# Altium integrated library Texas Instruments Power Management PWM Controller.IntLib: 1227 symbols (part 3 of 49)
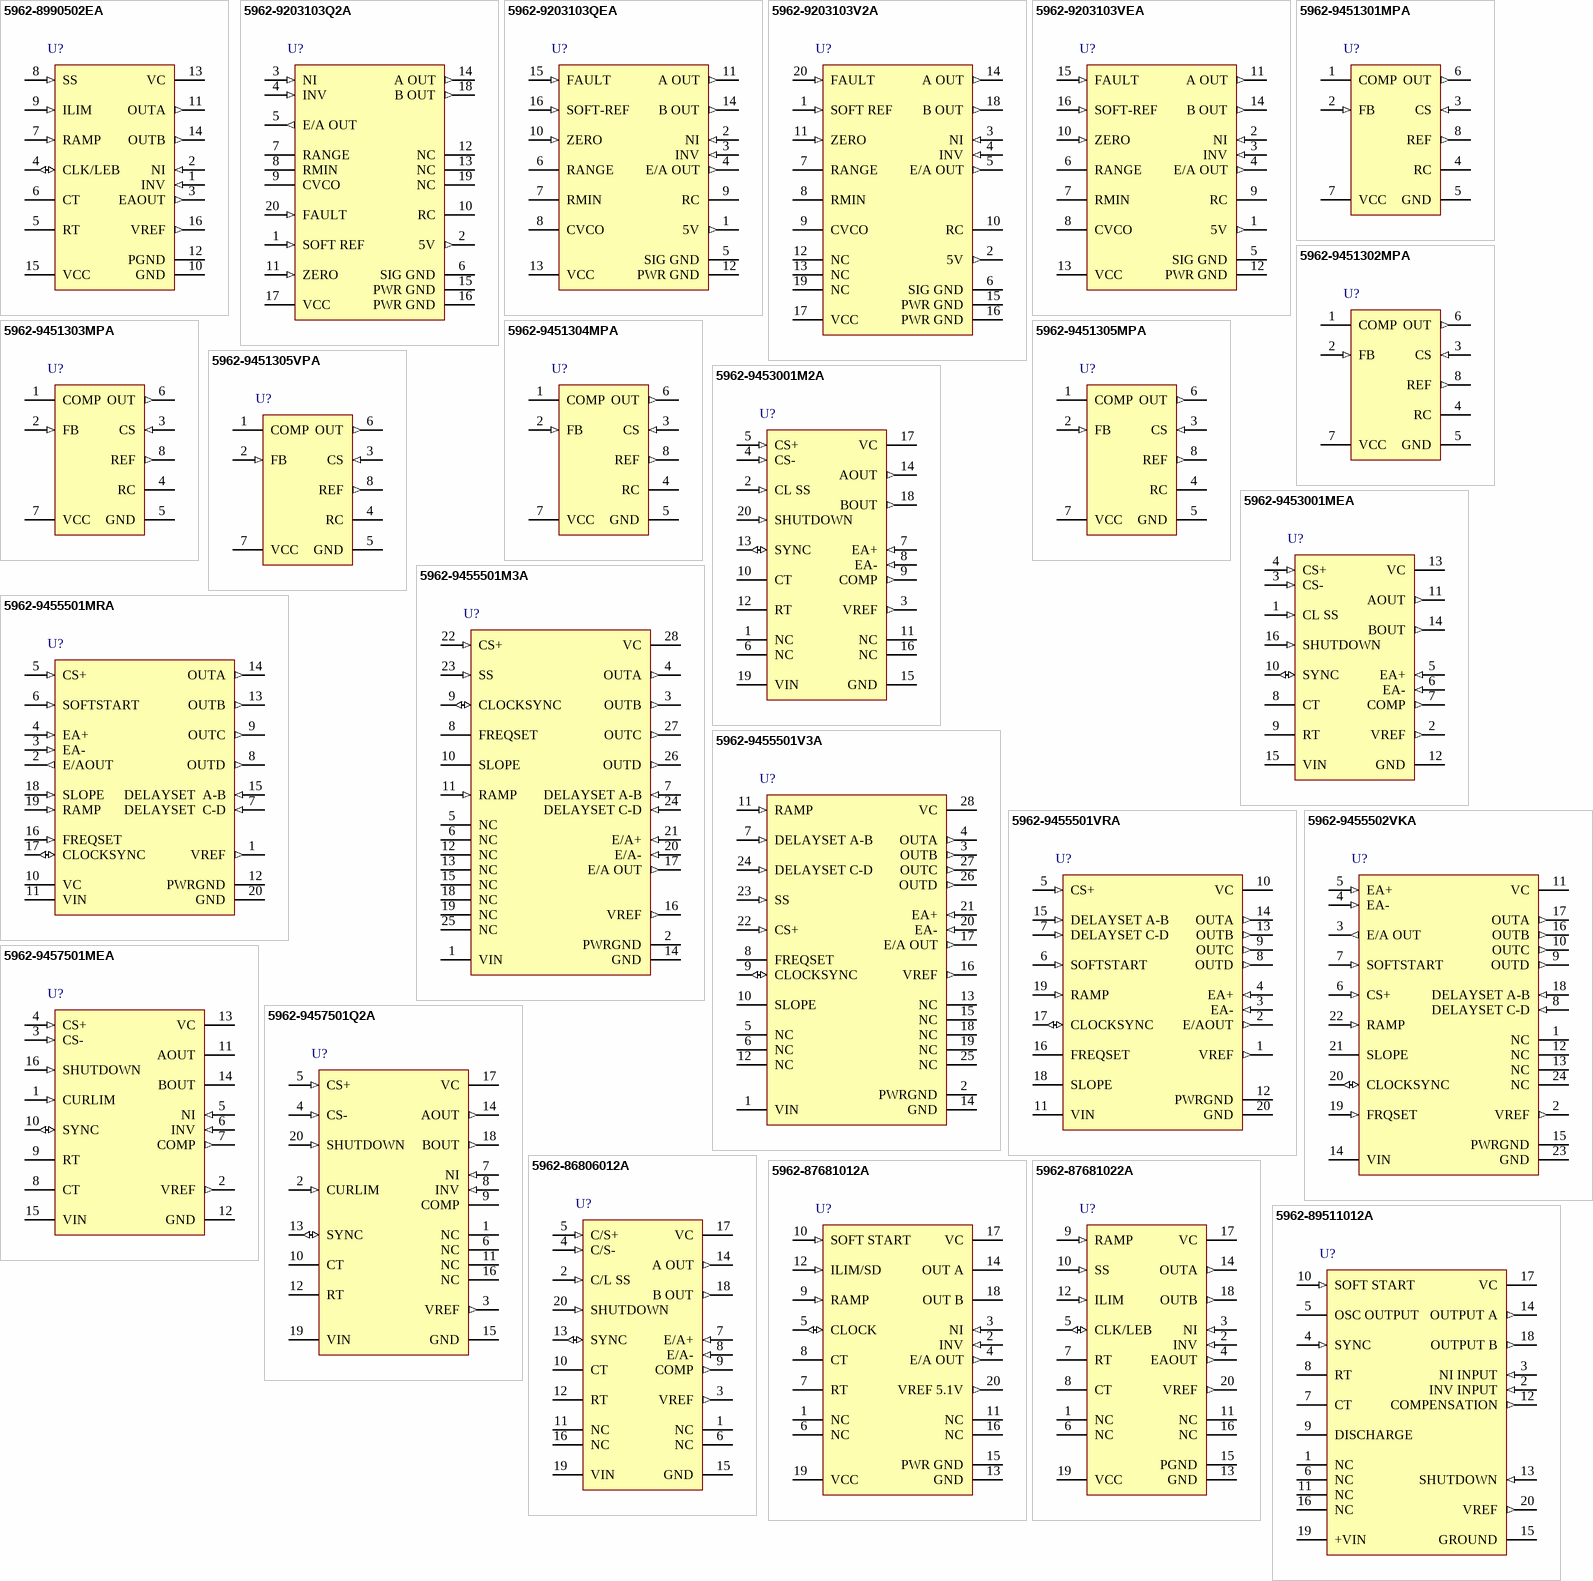
[diagram p45: symbols 5962-8990502EA to 5962-89511012A]

## 5962-9455501V3A
designator U?
Rad-Tolerant Class V, Phase Shift Resonant Controller, -55 to +125 degC, 28-pin LCCC (FK); PartNumber: 5962-9455501V3A; Manufacturer: Texas Instruments; Eco-Plan: TBD; Rating: Space; SubFamily: PWM Controller; DatasheetVersion: SLUSAQ9; PackageVersion: revD, Jan-2011; PackageReference: FK28; PackageDescription: 28-Pin Ceramic Leadless Chip Carrier 1.27 mm Pitch; Mounting Technology: Surface Mount; Code_JEDEC: MS-004; ComponentLink1Description: Datasheet; ComponentLink1URL: http://www.ti.com/general/docs/lit/getliterature.tsp?genericPartNumber=UC1875-SP&fileType=pdf
footprint FK28_N (Leadless Chip Carrier, 28-Leads, Body 11.4x11.4mm, Pitch 1.27mm, IPC Medium Density)
footprint FK28_L (Leadless Chip Carrier, 28-Leads, Body 11.4x11.4mm, Pitch 1.27mm, IPC High Density)
footprint FK28_M (Leadless Chip Carrier, 28-Leads, Body 11.4x11.4mm, Pitch 1.27mm, IPC Low Density)
pins: 1 VIN (power) "This pin supplies power to the logic and analog circuitry on the integrated circuit that is not directly associated with driving the output stages. Connect VIN to a stable source above 12 V for normal operation. To ensure (See Datasheet)", 2 PWRGND (power) "VC should be bypassed with a ceramic capacitor from the VC pin to the section of the ground plane that is connected to PWRGND. Any required bulk reservoir capacitor should parallel this one. Power ground and signal ground (See Datasheet)", 3 OUTB (out) "The output is 2 A totem-pole drivers optimized for both MOSFET gates and level-shifting transformers. The outputs operate as pairs with a nominal 50% duty-cycle. The A-B pair is intended to drive one half-bridge in the (See Datasheet)", 4 OUTA (out) "The output is 2 A totem-pole drivers optimized for both MOSFET gates and level-shifting transformers. The outputs operate as pairs with a nominal 50% duty-cycle. The A-B pair is intended to drive one half-bridge in the (See Datasheet)", 5 NC "No connection.", 6 NC "No connection.", 7 DELAYSET A-B (in) "The user programmed current flowing from this pin to GND set the turn-on delay for the corresponding output pair. This delay is introduced between turn-off of one switch and turn-on of another in the same leg of the bridge (See Datasheet)", 8 FREQSET "A resistor and a capacitor from FREQSET to GND will set the oscillator frequency.", 9 CLOCKSYNC (io) "Used as an output, this pin provides a clock signal. As an input, this pin provides a synchronization point. In its simplest usage, multiple devices, each with their own local oscillator frequency, may be connected together (See Datasheet)", 10 SLOPE "A resistor from this pin to VCC will set the current used to generate the ramp. Connecting this resistor to the DC input line voltage will provide voltage feed-forward.", 11 RAMP (in) "This pin is the input to the PWM comparator. Connect a capacitor from here to GND. Current mode control may be achieved with a minimum amount of external circuitry, in which case this pin provides slope compensation. Because (See Datasheet)", 12 NC "No connection.", 13 NC "No connection.", 14 GND (power) "All voltages are measured with respect to GND. The timing capacitor, on the FREQSET pin, any bypass capacitor on the VREF pin, bypass capacitors on VIN and the ramp capacitor, on the RAMP pin, should be connected directly to (See Datasheet)", 15 NC "No connection.", 16 VREF (out) "This pin is an accurate 5 V voltage reference. This output is capable of delivering about 60 mA to peripheral circuitry and is internally short circuit current limited. VREF is disabled while VIN is low enough to force the (See Datasheet)", 17 E/A OUT (out) "This is is the gain stage for overall feedback control. Error amplifier output voltage levels below 1 volt will force 0degrees phase shift. Since the error amplifier has a relatively low current drive capability, the output (See Datasheet)", 18 NC "No connection.", 19 NC "No connection.", 20 EA- (in) "This is normally connected to the voltage divider resistors which sense the power supply output voltage level.", 21 EA+ (in) "This is normally connected to a reference voltage used for comparison with the sensed power supply output voltage level at the EA+ pin.", 22 CS+ (in) "The non-inverting input to the current-fault comparator whose reference is set internally to a fixed 2.5 V (separate from VREF). When the voltage at this pin exceeds 2.5 V the current-fault latch is set, the outputs are (See Datasheet)", 23 SS (in) "SOFTSTART will remain at GND as long as VIN is below the UVLO threshold. SOFTSTART will be pulled up to about 4.8 V by an internal 9 µA current source when VIN becomes valid (assuming a non-fault condition). In the event of (See Datasheet)", 24 DELAYSET C-D (in) "The user programmed current flowing from this pin to GND set the turn-on delay for the corresponding output pair. This delay is introduced between turn-off of one switch and turn-on of another in the same leg of the bridge (See Datasheet)", 25 NC "No connection.", 26 OUTD (out) "The output is 2 A totem-pole drivers optimized for both MOSFET gates and level-shifting transformers. The outputs operate as pairs with a nominal 50% duty-cycle. The A-B pair is intended to drive one half-bridge in the (See Datasheet)", 27 OUTC (out) "The output is 2 A totem-pole drivers optimized for both MOSFET gates and level-shifting transformers. The outputs operate as pairs with a nominal 50% duty-cycle. The A-B pair is intended to drive one half-bridge in the (See Datasheet)", 28 VC (power) "This pin supplies power to the output drivers and their associated bias circuitry. Connect VC to a stable source above 3 V for normal operation, above 12 V for best performance. This supply should be bypassed directly to the (See Datasheet)"

## 5962-9455501VRA
designator U?
Rad-Tolerant Class V, Phase Shift Resonant Controller, -55 to +125 degC, 20-pin CDIP (J); PartNumber: 5962-9455501VRA; Manufacturer: Texas Instruments; Eco-Plan: TBD; Rating: Space; SubFamily: PWM Controller; DatasheetVersion: SLUSAQ9; PackageVersion: revF, Mar-2003; PackageReference: J20; PackageDescription: 20-Pin, Ceramic Dual In-Line Package, Row Spacing 7.62 mm, Pitch 2.54 mm; Supplier 1: Mouser; Supplier Part Number 1: 595-5962-9455501VRA; Mounting Technology: Through Hole; ComponentLink1Description: Datasheet; ComponentLink1URL: http://www.ti.com/general/docs/lit/getliterature.tsp?genericPartNumber=UC1875-SP&fileType=pdf
footprint J20 (DIP, 20-Leads, Row Spacing 7.62mm, Pitch 2.54mm, Body 26.9x6.9mm)
pins: 1 VREF (out) "This pin is an accurate 5 V voltage reference. This output is capable of delivering about 60 mA to peripheral circuitry and is internally short circuit current limited. VREF is disabled while VIN is low enough to force the (See Datasheet)", 2 E/AOUT (out) "This is is the gain stage for overall feedback control. Error amplifier output voltage levels below 1 volt will force 0degrees phase shift. Since the error amplifier has a relatively low current drive capability, the output (See Datasheet)", 3 EA- (in) "This is normally connected to the voltage divider resistors which sense the power supply output voltage level.", 4 EA+ (in) "This is normally connected to a reference voltage used for comparison with the sensed power supply output voltage level at the EA+ pin.", 5 CS+ (in) "The non-inverting input to the current-fault comparator whose reference is set internally to a fixed 2.5 V (separate from VREF). When the voltage at this pin exceeds 2.5 V the current-fault latch is set, the outputs are (See Datasheet)", 6 SOFTSTART (in) "SOFTSTART will remain at GND as long as VIN is below the UVLO threshold. SOFTSTART will be pulled up to about 4.8 V by an internal 9 uA current source when VIN becomes valid (assuming a non-fault condition). In the event of (See Datasheet)", 7 DELAYSET C-D (in) "The user programmed current flowing from these pins to GND set the turn-on delay for the corresponding output pair. This delay is introduced between turn-off of one switch and turn-on of another in the same leg of the bridge (See Datasheet)", 8 OUTD (out) "The outputs are 2 A totem-pole drivers optimized for both MOSFET gates and level-shifting transformers. The outputs operate as pairs with a nominal 50% duty-cycle. The A-B pair is intended to drive one half-bridge in the (See Datasheet)", 9 OUTC (out) "The outputs are 2 A totem-pole drivers optimized for both MOSFET gates and level-shifting transformers. The outputs operate as pairs with a nominal 50% duty-cycle. The A-B pair is intended to drive one half-bridge in the (See Datasheet)", 10 VC (power) "This pin supplies power to the output drivers and their associated bias circuitry. Connect VC to a stable source above 3 V for normal operation, above 12 V for best performance. This supply should be bypassed directly to the (See Datasheet)", 11 VIN (power) "This pin supplies power to the logic and analog circuitry on the integrated circuit that is not directly associated with driving the output stages. Connect VIN to a stable source above 12 V for normal operation. To ensure (See Datasheet)", 12 PWRGND (power) "VC should be bypassed with a ceramic capacitor from the VC pin to the section of the ground plane that is connected to PWRGND. Any required bulk reservoir capacitor should parallel this one. Power ground and signal ground (See Datasheet)", 13 OUTB (out) "The outputs are 2 A totem-pole drivers optimized for both MOSFET gates and level-shifting transformers. The outputs operate as pairs with a nominal 50% duty-cycle. The A-B pair is intended to drive one half-bridge in the (See Datasheet)", 14 OUTA (out) "The outputs are 2 A totem-pole drivers optimized for both MOSFET gates and level-shifting transformers. The outputs operate as pairs with a nominal 50% duty-cycle. The A-B pair is intended to drive one half-bridge in the (See Datasheet)", 15 DELAYSET A-B (in) "The user programmed current flowing from these pins to GND set the turn-on delay for the corresponding output pair. This delay is introduced between turn-off of one switch and turn-on of another in the same leg of the bridge (See Datasheet)", 16 FREQSET "A resistor and a capacitor from FREQSET to GND will set the oscillator frequency.", 17 CLOCKSYNC (io) "Used as an output, this pin provides a clock signal. As an input, this pin provides a synchronization point. In its simplest usage, multiple devices, each with their own local oscillator frequency, may be connected together (See Datasheet)", 18 SLOPE "A resistor from this pin to VCC will set the current used to generate the ramp. Connecting this resistor to the DC input line voltage will provide voltage feed-forward.", 19 RAMP (in) "This pin is the input to the PWM comparator. Connect a capacitor from here to GND. A voltage ramp is developed at this pin with a slope: Current mode control may be achieved with a minimum amount of external circuitry, in (See Datasheet)", 20 GND (power) "All voltages are measured with respect to GND. The timing capacitor, on the FREQSET pin, any bypass capacitor on the VREF pin, bypass capacitors on VIN and the ramp capacitor, on the RAMP pin, should be connected directly to (See Datasheet)"

## 5962-9455502VKA
designator U?
Rad-Tolerant Class V, Phase Shift Resonant Controller, -55 to +125 degC, 24-pin CFP (W); PartNumber: 5962-9455502VKA; Manufacturer: Texas Instruments; Eco-Plan: TBD; Rating: Space; SubFamily: PWM Controller; DatasheetVersion: SLUSAQ9; PackageVersion: revB, Mar-1995; PackageReference: W24; PackageDescription: Ceramic DFP, 24 Leads, Body 16.3 x 9.5 mm (LxW max), Pitch 1.27 mm; Supplier 1: Newark; Supplier Part Number 1: 76T8556; Supplier 2: Mouser; Supplier Part Number 2: 595-5962-9455502VKA; Mounting Technology: Surface Mount; Code_JEDEC: MO-070-AD; ComponentLink1Description: Datasheet; ComponentLink1URL: http://www.ti.com/general/docs/lit/getliterature.tsp?genericPartNumber=UC1875-SP&fileType=pdf
footprint W024 (DFP, 24 Leads, Body 14.4x9.1mm, Pitch 1.27mm, Gullwing Leadform)
pins: 1 NC "No connection", 2 VREF (out) "This pin is an accurate 5 V voltage reference. This output is capable of delivering about 60 mA to peripheral circuitry and is internally short circuit current limited. VREF is disabled while VIN is low enough to force the (See Datasheet)", 3 E/A OUT (out) "This is is the gain stage for overall feedback control. Error amplifier output voltage levels below 1 volt will force 0degrees phase shift. Since the error amplifier has a relatively low current drive capability, the output (See Datasheet)", 4 EA- (in) "This is normally connected to the voltage divider resistors which sense the power supply output voltage level.", 5 EA+ (in) "This is normally connected to a reference voltage used for comparison with the sensed power supply output voltage level at the EA+ pin.", 6 CS+ (in) "The non-inverting input to the current-fault comparator whose reference is set internally to a fixed 2.5 V (separate from VREF). When the voltage at this pin exceeds 2.5 V the current-fault latch is set, the outputs are (See Datasheet)", 7 SOFTSTART (in) "SOFTSTART will remain at GND as long as VIN is below the UVLO threshold. SOFTSTART will be pulled up to about 4.8 V by an internal 9 uA current source when VIN becomes valid (assuming a non-fault condition). In the event of (See Datasheet)", 8 DELAYSET C-D (in) "The user programmed current flowing from these pins to GND set the turn-on delay for the corresponding output pair. This delay is introduced between turn-off of one switch and turn-on of another in the same leg of the bridge (See Datasheet)", 9 OUTD (out) "The outputs are 2 A totem-pole drivers optimized for both MOSFET gates and level-shifting transformers. The outputs operate as pairs with a nominal 50% duty-cycle. The A-B pair is intended to drive one half-bridge in the (See Datasheet)", 10 OUTC (out) "The outputs are 2 A totem-pole drivers optimized for both MOSFET gates and level-shifting transformers. The outputs operate as pairs with a nominal 50% duty-cycle. The A-B pair is intended to drive one half-bridge in the (See Datasheet)", 11 VC (power) "This pin supplies power to the output drivers and their associated bias circuitry. Connect VC to a stable source above 3 V for normal operation, above 12 V for best performance. This supply should be bypassed directly to the (See Datasheet)", 12 NC "No connection", 13 NC "No connection", 14 VIN (power) "This pin supplies power to the logic and analog circuitry on the integrated circuit that is not directly associated with driving the output stages. Connect VIN to a stable source above 12 V for normal operation. To ensure (See Datasheet)", 15 PWRGND (power) "VC should be bypassed with a ceramic capacitor from the VC pin to the section of the ground plane that is connected to PWRGND. Any required bulk reservoir capacitor should parallel this one. Power ground and signal ground (See Datasheet)", 16 OUTB (out) "The outputs are 2 A totem-pole drivers optimized for both MOSFET gates and level-shifting transformers. The outputs operate as pairs with a nominal 50% duty-cycle. The A-B pair is intended to drive one half-bridge in the (See Datasheet)", 17 OUTA (out) "The outputs are 2 A totem-pole drivers optimized for both MOSFET gates and level-shifting transformers. The outputs operate as pairs with a nominal 50% duty-cycle. The A-B pair is intended to drive one half-bridge in the (See Datasheet)", 18 DELAYSET A-B (in) "The user programmed current flowing from these pins to GND set the turn-on delay for the corresponding output pair. This delay is introduced between turn-off of one switch and turn-on of another in the same leg of the bridge (See Datasheet)", 19 FRQSET (in) "A resistor and a capacitor from FREQSET to GND will set the oscillator frequency.", 20 CLOCKSYNC (io) "Used as an output, this pin provides a clock signal. As an input, this pin provides a synchronization point. In its simplest usage, multiple devices, each with their own local oscillator frequency, may be connected together (See Datasheet)", 21 SLOPE "A resistor from this pin to VCC will set the current used to generate the ramp. Connecting this resistor to the DC input line voltage will provide voltage feed-forward.", 22 RAMP (in) "This pin is the input to the PWM comparator. Connect a capacitor from here to GND. A voltage ramp is developed at this pin with a slope: Current mode control may be achieved with a minimum amount of external circuitry, in (See Datasheet)", 23 GND (power) "All voltages are measured with respect to GND. The timing capacitor, on the FREQSET pin, any bypass capacitor on the VREF pin, bypass capacitors on VIN and the ramp capacitor, on the RAMP pin, should be connected directly to (See Datasheet)", 24 NC "No connection"

## 5962-9457501MEA
designator U?
Low-Power Dual-Output PWM Controller with Current Control, 50 % Duty Cycle, -55 to +125 degC, 16-pin CDIP (J); PartNumber: 5962-9457501MEA; Manufacturer: Texas Instruments; Duty Cycle(Max)(%): 50; Eco-Plan: TBD; Frequency(Max)(kHz): 1000; Rating: Military; Regulated Outputs(#): 2; Topology: Boost, Flyback, Forward; UVLO Thresholds On/Off(V): 7.5/6.75; DatasheetVersion: SLUS272F; PackageVersion: revF, Mar-2003; PackageReference: J16; PackageDescription: 16-Pin, Ceramic Dual In-Line Package, Row Spacing 7.62 mm, Pitch 2.54 mm; Control Method: Current; SubFamily: PWM Controller; Mounting Technology: Through Hole; ComponentLink1Description: Datasheet; ComponentLink1URL: http://www.ti.com/general/docs/lit/getliterature.tsp?genericPartNumber=UCC1806&fileType=pdf
footprint J16 (DIP, 16-Leads, Row Spacing 7.62mm, Pitch 2.54mm, Body 21.3x6.9mm)
pins: 1 CURLIM (in) "Programs the primary current limit threshold that determins latching or retry after an overcurrent situation", 2 VREF (out) "Reference output.", 3 CS- (in) "Inverting input of the 3x, differential current sense amplifier", 4 CS+ (in) "Non-inverting input of the 3x, differential current sense amplifier", 5 NI (in) "Non-nverting input of the error amplifier.", 6 INV (in) "Inverting input of the error amplifier.", 7 COMP (out) "Output of the error amplifier", 8 CT "Oscillator timing capacitor connection point", 9 RT "Connection point for the oscillator timing resistor", 10 SYNC (io) "Allows providing external synchronization with TTL compatible thresholds.", 11 AOUT "High current gate drive for the external MOSFETs", 12 GND (power) "Reference ground and power ground for all functions of this device", 13 VC (power) "Input supply connection for the FET drive outputs.", 14 BOUT "High current gate drive for the external MOSFETs", 15 VIN (power) "Input supply connection for this device.", 16 SHUTDOWN (in) "Provided for enhanced protection. When SHUTDOWN is driven above 1 V, AOUT and BOUT are forced low."

## 5962-9457501Q2A
designator U?
Low-Power Dual-Output PWM Controller with Current Control, 50 % Duty Cycle, -55 to +125 degC, 20-pin LCCC (FK); PartNumber: 5962-9457501Q2A; Manufacturer: Texas Instruments; Duty Cycle(Max)(%): 50; Eco-Plan: TBD; Frequency(Max)(kHz): 1000; Rating: Military; Regulated Outputs(#): 2; Topology: Boost, Flyback, Forward; UVLO Thresholds On/Off(V): 7.5/6.75; DatasheetVersion: SLUS272F; PackageVersion: revD, Jan-2011; PackageReference: FK20; PackageDescription: 20-Pin Leadless Ceramic Chip Carrier, 1.27 mm Pitch; Control Method: Current; SubFamily: PWM Controller; Mounting Technology: Surface Mount; Code_JEDEC: MS-004; ComponentLink1Description: Datasheet; ComponentLink1URL: http://www.ti.com/general/docs/lit/getliterature.tsp?genericPartNumber=UCC1806&fileType=pdf
footprint FK20_N (Leadless Chip Carrier, 20-Leads, Body 8.9x8.9mm, Pitch 1.27mm, IPC Medium Density)
footprint FK20_L (Leadless Chip Carrier, 20-Leads, Body 8.9x8.9mm, Pitch 1.27mm, IPC High Density)
footprint FK20_M (Leadless Chip Carrier, 20-Leads, Body 8.9x8.9mm, Pitch 1.27mm, IPC Low Density)
pins: 1 NC "No connection", 2 CURLIM (in) "Programs the primary current limit threshold that determins latching or retry after an overcurrent situation", 3 VREF (out) "Reference output.", 4 CS- (in) "Inverting input of the 3x, differential current sense amplifier", 5 CS+ (in) "Non-inverting input of the 3x, differential current sense amplifier", 6 NC "No connection", 7 NI (in) "Non-nverting input of the error amplifier.", 8 INV (in) "Inverting input of the error amplifier.", 9 COMP "Output of the error amplifier", 10 CT "Oscillator timing capacitor connection point", 11 NC "No connection", 12 RT "Connection point for the oscillator timing resistor", 13 SYNC (io) "Allows providing external synchronization with TTL compatible thresholds.", 14 AOUT (out) "High current gate drive for the external MOSFETs", 15 GND (power) "Reference ground and power ground for all functions of this device", 16 NC "No connection", 17 VC (power) "Input supply connection for the FET drive outputs.", 18 BOUT (out) "High current gate drive for the external MOSFETs", 19 VIN (power) "Input supply connection for this device.", 20 SHUTDOWN (in) "Provided for enhanced protection. When SHUTDOWN is driven above 1 V, AOUT and BOUT are forced low."

## 5962-86806012A
designator U?
PWM Controller with Current Control, 50 % Duty Cycle, -55 to +125 degC, 20-pin LCCC (FK); PartNumber: 5962-86806012A; Manufacturer: Texas Instruments; Duty Cycle(Max)(%): 50; Eco-Plan: TBD; Frequency(Max)(kHz): 450; Rating: Military; Regulated Outputs(#): 2; Topology: Boost, Flyback, Forward, Full-Bridge, Half-Bridge, Push-Pull; UVLO Thresholds On/Off(V): 7.7/6.95; DatasheetVersion: SLUS352B; PackageVersion: revD, Jan-2011; PackageReference: FK20; PackageDescription: 20-Pin Leadless Ceramic Chip Carrier, 1.27 mm Pitch; Control Method: Current; SubFamily: PWM Controller; Mounting Technology: Surface Mount; Code_JEDEC: MS-004; ComponentLink1Description: Datasheet; ComponentLink1URL: http://www.ti.com/general/docs/lit/getliterature.tsp?genericPartNumber=UC1846&fileType=pdf
footprint FK20_N (Leadless Chip Carrier, 20-Leads, Body 8.9x8.9mm, Pitch 1.27mm, IPC Medium Density)
footprint FK20_L (Leadless Chip Carrier, 20-Leads, Body 8.9x8.9mm, Pitch 1.27mm, IPC High Density)
footprint FK20_M (Leadless Chip Carrier, 20-Leads, Body 8.9x8.9mm, Pitch 1.27mm, IPC Low Density)
pins: 1 NC, 2 C/L SS (in), 3 VREF (out), 4 C/S- (in), 5 C/S+ (in), 6 NC, 7 E/A+ (in), 8 E/A- (in), 9 COMP (out), 10 CT, 11 NC, 12 RT, 13 SYNC (io), 14 A OUT (out), 15 GND (power), 16 NC, 17 VC (power), 18 B OUT (out), 19 VIN (power), 20 SHUTDOWN (in)

## 5962-87681012A
designator U?
High Speed PWM Controller with Current Control, 50 % Duty Cycle, -55 to +125 degC, 20-pin LCCC (FK); PartNumber: 5962-87681012A; Manufacturer: Texas Instruments; Duty Cycle(Max)(%): 50; Eco-Plan: TBD; Frequency(Max)(kHz): 1000; Rating: Military; Regulated Outputs(#): 2; Topology: Boost, Flyback, Forward, Full-Bridge, Half-Bridge, Push-Pull; UVLO Thresholds On/Off(V): 9.2/8.4; DatasheetVersion: SLUS235A; PackageVersion: revD, Jan-2011; PackageReference: FK20; PackageDescription: 20-Pin Leadless Ceramic Chip Carrier, 1.27 mm Pitch; Control Method: Current; SubFamily: PWM Controller; Mounting Technology: Surface Mount; Code_JEDEC: MS-004; ComponentLink1Description: Datasheet; ComponentLink1URL: http://www.ti.com/general/docs/lit/getliterature.tsp?genericPartNumber=UC1825&fileType=pdf
footprint FK20_N (Leadless Chip Carrier, 20-Leads, Body 8.9x8.9mm, Pitch 1.27mm, IPC Medium Density)
footprint FK20_L (Leadless Chip Carrier, 20-Leads, Body 8.9x8.9mm, Pitch 1.27mm, IPC High Density)
footprint FK20_M (Leadless Chip Carrier, 20-Leads, Body 8.9x8.9mm, Pitch 1.27mm, IPC Low Density)
pins: 1 NC, 2 INV (in), 3 NI (in), 4 E/A OUT (out), 5 CLOCK (io), 6 NC, 7 RT, 8 CT, 9 RAMP (in), 10 SOFT START (in), 11 NC, 12 ILIM/SD (in), 13 GND (power), 14 OUT A (hiz), 15 PWR GND (power), 16 NC, 17 VC (power), 18 OUT B (hiz), 19 VCC (power), 20 VREF 5.1V (out)

## 5962-87681022A
designator U?
High-Speed PWM Controller with Current Control, 50 % Duty Cycle, -55 to +125 degC, 20-pin LCCC (FK); PartNumber: 5962-87681022A; Manufacturer: Texas Instruments; Duty Cycle(Max)(%): 50; Eco-Plan: TBD; Frequency(Max)(kHz): 1000; Rating: Military; Regulated Outputs(#): 2; Topology: Boost, Flyback, Forward, Full-Bridge, Half-Bridge, Push-Pull; UVLO Thresholds On/Off(V): 16/10; DatasheetVersion: SLUS334E; PackageVersion: revD, Jan-2011; PackageReference: FK20; PackageDescription: 20-Pin Leadless Ceramic Chip Carrier, 1.27 mm Pitch; Control Method: Current; SubFamily: PWM Controller; Mounting Technology: Surface Mount; Code_JEDEC: MS-004; ComponentLink1Description: Datasheet; ComponentLink1URL: http://www.ti.com/general/docs/lit/getliterature.tsp?genericPartNumber=UC1825A&fileType=pdf
footprint FK20_N (Leadless Chip Carrier, 20-Leads, Body 8.9x8.9mm, Pitch 1.27mm, IPC Medium Density)
footprint FK20_L (Leadless Chip Carrier, 20-Leads, Body 8.9x8.9mm, Pitch 1.27mm, IPC High Density)
footprint FK20_M (Leadless Chip Carrier, 20-Leads, Body 8.9x8.9mm, Pitch 1.27mm, IPC Low Density)
pins: 1 NC "No Connection", 2 INV (in) "Inverting input to the error amplifier", 3 NI (in) "Non-inverting input to the error amplifier", 4 EAOUT (out) "Output of the error amplifier for compensation", 5 CLK/LEB (io) "Output of the internal oscillator", 6 NC "No Connection", 7 RT "Timing resistor connection pin for oscillator frequency programming", 8 CT "Timing capacitor connection pin for oscillator frequency programming. The timing capacitor should be connected to the device ground using minimal trace length.", 9 RAMP (in) "Non-inverting input to the PWM comparator with 1.25-V internal input offset. In voltage mode operation, this serves as the input voltage feed-forward function by using the CT ramp. In peak current mode operation, this serves (See Datasheet)", 10 SS (in) "Soft-start input pin which also doubles as the maximum duty cycle clamp.", 11 NC "No Connection", 12 ILIM (in) "Input to the current limit comparator", 13 GND (power) "Analog ground return pin", 14 OUTA (out) "High current totem pole output A of the on-chip drive stage.", 15 PGND (power) "Ground return pin for the output driver stage", 16 NC "No Connection", 17 VC (power) "Power supply pin for the output stage. This pin should be bypassed with a 0.1-uF monolithic ceramic low ESL capacitor with minimal trace lengths.", 18 OUTB (out) "High current totem pole output B of the on-chip drive stage.", 19 VCC (power) "Power supply pin for the device. This pin should be bypassed with a 0.1-uF monolithic ceramic low ESL capacitor with minimal trace lengths", 20 VREF (out) "5.1-V reference. For stability, the reference should be bypassed with a 0.1-uF monolithic ceramic low ESL capacitor and minimal trace length to the ground plane."

## 5962-89511012A
designator U?
Regulating Pulse Width Modulator with Voltage Control, 50 % Duty Cycle, -55 to +125 degC, 20-pin LCCC (FK); PartNumber: 5962-89511012A; Manufacturer: Texas Instruments; Duty Cycle(Max)(%): 50; Eco-Plan: TBD; Frequency(Max)(kHz): 450; Rating: Military; Regulated Outputs(#): 2; SubFamily: PWM Controller; Topology: Boost, Flyback, Forward, Full-Bridge, Half-Bridge, Push-Pull; DatasheetVersion: SLUS191C; PackageVersion: revD, Jan-2011; PackageReference: FK20; PackageDescription: 20-Pin Leadless Ceramic Chip Carrier, 1.27 mm Pitch; Control Method: Voltage; UVLO Thresholds On/Off(V): 7/6.8; Mounting Technology: Surface Mount; Code_JEDEC: MS-004; ComponentLink1Description: Datasheet; ComponentLink1URL: http://www.ti.com/general/docs/lit/getliterature.tsp?genericPartNumber=UC1525A&fileType=pdf
footprint FK20_N (Leadless Chip Carrier, 20-Leads, Body 8.9x8.9mm, Pitch 1.27mm, IPC Medium Density)
footprint FK20_L (Leadless Chip Carrier, 20-Leads, Body 8.9x8.9mm, Pitch 1.27mm, IPC High Density)
footprint FK20_M (Leadless Chip Carrier, 20-Leads, Body 8.9x8.9mm, Pitch 1.27mm, IPC Low Density)
pins: 1 NC, 2 INV INPUT (in), 3 NI INPUT (in), 4 SYNC (in), 5 OSC OUTPUT, 6 NC, 7 CT, 8 RT, 9 DISCHARGE (oc), 10 SOFT START (in), 11 NC, 12 COMPENSATION (out), 13 SHUTDOWN (in), 14 OUTPUT A (out), 15 GROUND (power), 16 NC, 17 VC (power), 18 OUTPUT B (out), 19 +VIN (power), 20 VREF (out)

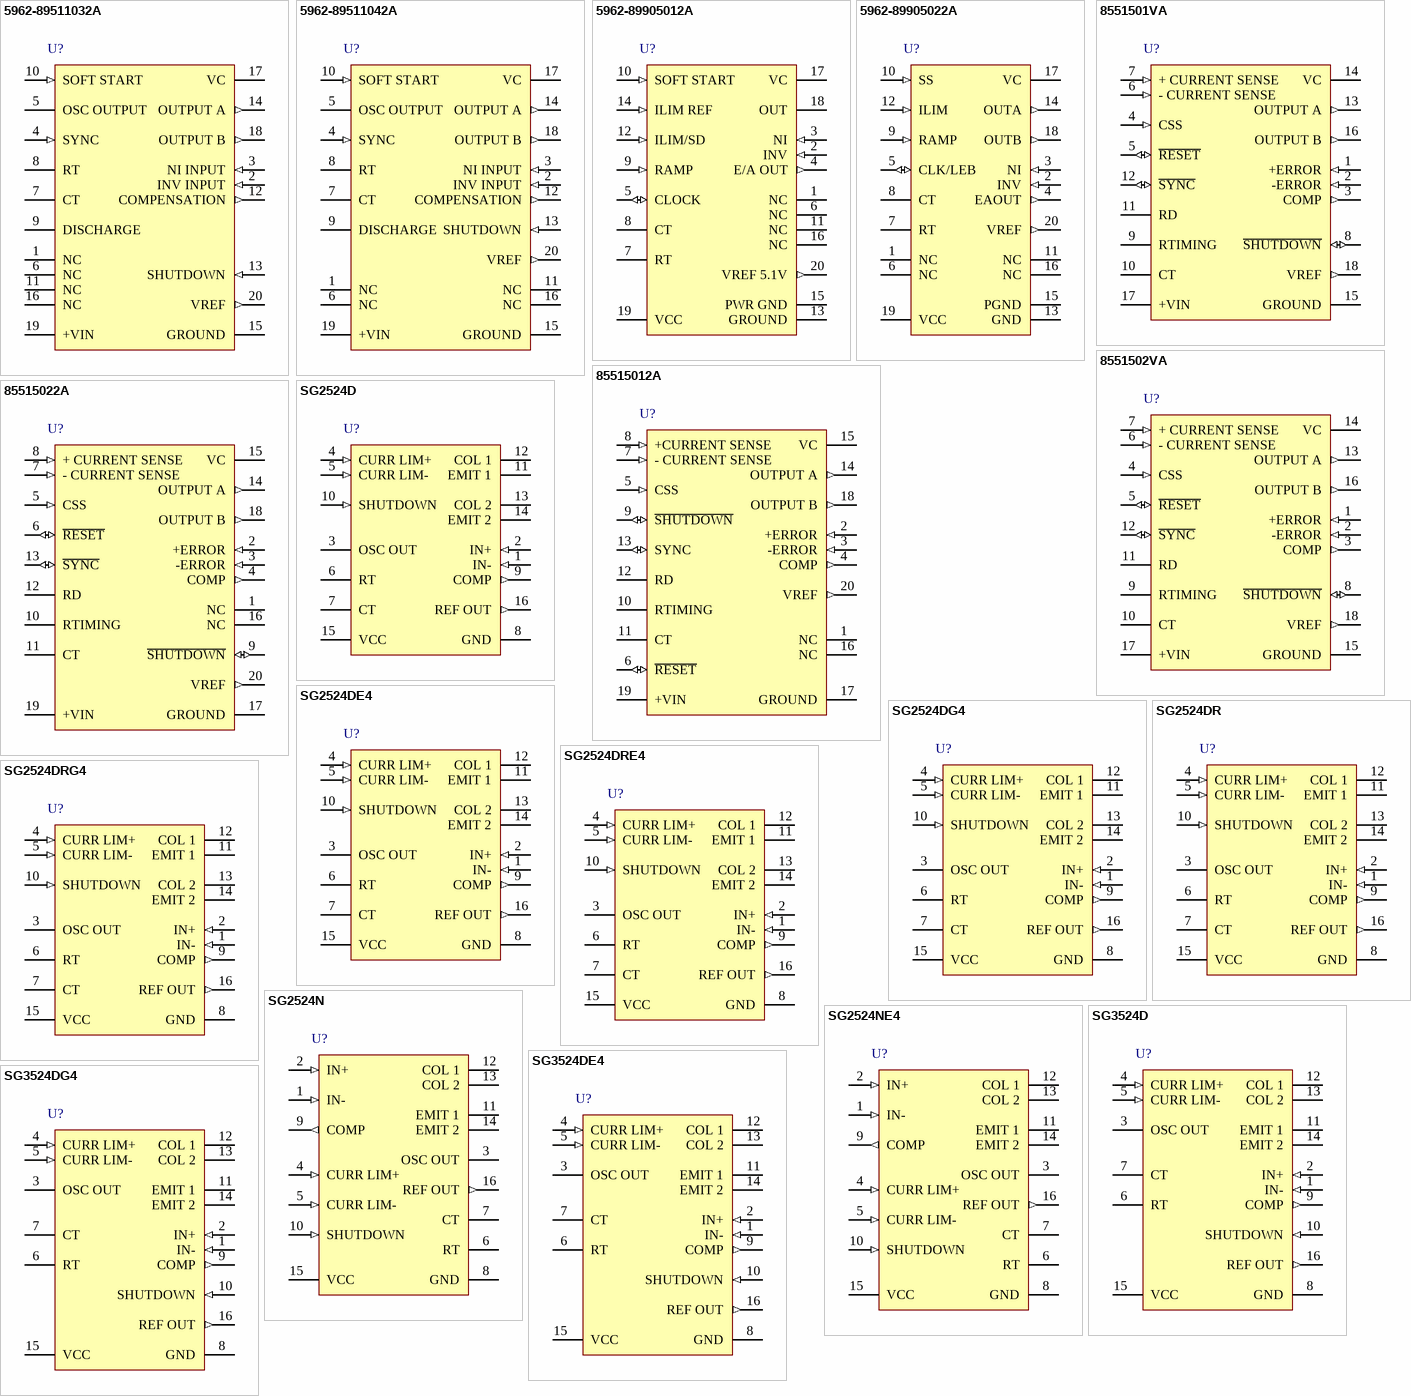
[diagram p3: symbols 5962-89511032A to SG3524DG4]

## 5962-89511032A
designator U?
Regulating Pulse Width Modulator with Voltage Control, 50 % Duty Cycle, -55 to +125 degC, 20-pin LCCC (FK); PartNumber: 5962-89511032A; Manufacturer: Texas Instruments; Duty Cycle(Max)(%): 50; Eco-Plan: TBD; Frequency(Max)(kHz): 450; Rating: Military; Regulated Outputs(#): 2; SubFamily: PWM Controller; Topology: Boost, Flyback, Forward, Full-Bridge, Half-Bridge, Push-Pull; DatasheetVersion: SLUS191C; PackageVersion: revD, Jan-2011; PackageReference: FK20; PackageDescription: 20-Pin Leadless Ceramic Chip Carrier, 1.27 mm Pitch; Control Method: Voltage; UVLO Thresholds On/Off(V): 7/6.8; Mounting Technology: Surface Mount; Code_JEDEC: MS-004; ComponentLink1Description: Datasheet; ComponentLink1URL: http://www.ti.com/general/docs/lit/getliterature.tsp?genericPartNumber=UC1525A&fileType=pdf
footprint FK20_N (Leadless Chip Carrier, 20-Leads, Body 8.9x8.9mm, Pitch 1.27mm, IPC Medium Density)
footprint FK20_L (Leadless Chip Carrier, 20-Leads, Body 8.9x8.9mm, Pitch 1.27mm, IPC High Density)
footprint FK20_M (Leadless Chip Carrier, 20-Leads, Body 8.9x8.9mm, Pitch 1.27mm, IPC Low Density)
pins: 1 NC, 2 INV INPUT (in), 3 NI INPUT (in), 4 SYNC (in), 5 OSC OUTPUT, 6 NC, 7 CT, 8 RT, 9 DISCHARGE (oc), 10 SOFT START (in), 11 NC, 12 COMPENSATION (out), 13 SHUTDOWN (in), 14 OUTPUT A (out), 15 GROUND (power), 16 NC, 17 VC (power), 18 OUTPUT B (out), 19 +VIN (power), 20 VREF (out)

## 5962-89511042A
designator U?
Regulating Pulse Width Modulator with Voltage Control, 50 % Duty Cycle, -55 to +125 degC, 20-pin LCCC (FK); PartNumber: 5962-89511042A; Manufacturer: Texas Instruments; Duty Cycle(Max)(%): 50; Eco-Plan: TBD; Frequency(Max)(kHz): 450; Rating: Military; Regulated Outputs(#): 2; SubFamily: PWM Controller; Topology: Boost, Flyback, Forward, Full-Bridge, Half-Bridge, Push-Pull; DatasheetVersion: SLUS191C; PackageVersion: revD, Jan-2011; PackageReference: FK20; PackageDescription: 20-Pin Leadless Ceramic Chip Carrier, 1.27 mm Pitch; Control Method: Voltage; UVLO Thresholds On/Off(V): 7/6.8; Mounting Technology: Surface Mount; Code_JEDEC: MS-004; ComponentLink1Description: Datasheet; ComponentLink1URL: http://www.ti.com/general/docs/lit/getliterature.tsp?genericPartNumber=UC1527A&fileType=pdf
footprint FK20_N (Leadless Chip Carrier, 20-Leads, Body 8.9x8.9mm, Pitch 1.27mm, IPC Medium Density)
footprint FK20_L (Leadless Chip Carrier, 20-Leads, Body 8.9x8.9mm, Pitch 1.27mm, IPC High Density)
footprint FK20_M (Leadless Chip Carrier, 20-Leads, Body 8.9x8.9mm, Pitch 1.27mm, IPC Low Density)
pins: 1 NC, 2 INV INPUT (in), 3 NI INPUT (in), 4 SYNC (in), 5 OSC OUTPUT, 6 NC, 7 CT, 8 RT, 9 DISCHARGE (oc), 10 SOFT START (in), 11 NC, 12 COMPENSATION (out), 13 SHUTDOWN (in), 14 OUTPUT A (out), 15 GROUND (power), 16 NC, 17 VC (power), 18 OUTPUT B (out), 19 +VIN (power), 20 VREF (out)

## 5962-89905012A
designator U?
High Speed PWM Controller with Current Control, 100 % Duty Cycle, -55 to +125 degC, 20-pin LCCC (FK); PartNumber: 5962-89905012A; Manufacturer: Texas Instruments; Duty Cycle(Max)(%): 100; Eco-Plan: TBD; Frequency(Max)(kHz): 1000; Rating: Military; Regulated Outputs(#): 1; Topology: Boost, Buck, Flyback, Forward; UVLO Thresholds On/Off(V): 9.2/8.4; DatasheetVersion: SLUS219B; PackageVersion: revD, Jan-2011; PackageReference: FK20; PackageDescription: 20-Pin Leadless Ceramic Chip Carrier, 1.27 mm Pitch; Control Method: Current; SubFamily: PWM Controller; Mounting Technology: Surface Mount; Code_JEDEC: MS-004; ComponentLink1Description: Datasheet; ComponentLink1URL: http://www.ti.com/general/docs/lit/getliterature.tsp?genericPartNumber=UC1823&fileType=pdf
footprint FK20_N (Leadless Chip Carrier, 20-Leads, Body 8.9x8.9mm, Pitch 1.27mm, IPC Medium Density)
footprint FK20_L (Leadless Chip Carrier, 20-Leads, Body 8.9x8.9mm, Pitch 1.27mm, IPC High Density)
footprint FK20_M (Leadless Chip Carrier, 20-Leads, Body 8.9x8.9mm, Pitch 1.27mm, IPC Low Density)
pins: 1 NC, 2 INV (in), 3 NI (in), 4 E/A OUT (out), 5 CLOCK (io), 6 NC, 7 RT, 8 CT, 9 RAMP (in), 10 SOFT START (in), 11 NC, 12 ILIM/SD (in), 13 GROUND (power), 14 ILIM REF (in), 15 PWR GND (power), 16 NC, 17 VC (power), 18 OUT (hiz), 19 VCC (power), 20 VREF 5.1V (out)

## 5962-89905022A
designator U?
High-Speed PWM Controller with Current Control, 100 % Duty Cycle, -55 to +125 degC, 20-pin LCCC (FK); PartNumber: 5962-89905022A; Manufacturer: Texas Instruments; Duty Cycle(Max)(%): 100; Eco-Plan: TBD; Frequency(Max)(kHz): 1000; Rating: Military; Regulated Outputs(#): 1; Topology: Boost, Buck, Flyback, Forward; UVLO Thresholds On/Off(V): 16/10; DatasheetVersion: SLUS334E; PackageVersion: revD, Jan-2011; PackageReference: FK20; PackageDescription: 20-Pin Leadless Ceramic Chip Carrier, 1.27 mm Pitch; Control Method: Current; SubFamily: PWM Controller; Mounting Technology: Surface Mount; Code_JEDEC: MS-004; ComponentLink1Description: Datasheet; ComponentLink1URL: http://www.ti.com/general/docs/lit/getliterature.tsp?genericPartNumber=UC1823A&fileType=pdf
footprint FK20_N (Leadless Chip Carrier, 20-Leads, Body 8.9x8.9mm, Pitch 1.27mm, IPC Medium Density)
footprint FK20_L (Leadless Chip Carrier, 20-Leads, Body 8.9x8.9mm, Pitch 1.27mm, IPC High Density)
footprint FK20_M (Leadless Chip Carrier, 20-Leads, Body 8.9x8.9mm, Pitch 1.27mm, IPC Low Density)
pins: 1 NC "No connection", 2 INV (in) "Inverting input to the error amplifier", 3 NI (in) "Non-inverting input to the error amplifier", 4 EAOUT (out) "Output of the error amplifier for compensation", 5 CLK/LEB (io) "Output of the internal oscillator", 6 NC "No connection", 7 RT "Timing resistor connection pin for oscillator frequency programming", 8 CT "Timing capacitor connection pin for oscillator frequency programming. The timing capacitor should be connected to the device ground using minimal trace length.", 9 RAMP (in) "Non-inverting input to the PWM comparator with 1.25-V internal input offset. In voltage mode operation, this serves as the input voltage feed-forward function by using the CT ramp. In peak current mode operation, this serves (See Datasheet)", 10 SS (in) "Soft-start input pin which also doubles as the maximum duty cycle clamp.", 11 NC "No connection", 12 ILIM (in) "Input to the current limit comparator", 13 GND (power) "Analog ground return pin", 14 OUTA (out) "High current totem pole output A of the on-chip drive stage.", 15 PGND (power) "Ground return pin for the output driver stage", 16 NC "No connection", 17 VC (power) "Power supply pin for the output stage. This pin should be bypassed with a 0.1-uF monolithic ceramic low ESL capacitor with minimal trace lengths.", 18 OUTB (out) "High current totem pole output B of the on-chip drive stage.", 19 VCC (power) "Power supply pin for the device. This pin should be bypassed with a 0.1-uF monolithic ceramic low ESL capacitor with minimal trace lengths", 20 VREF (out) "5.1-V reference. For stability, the reference should be bypassed with a 0.1-uF monolithic ceramic low ESL capacitor and minimal trace length to the ground plane."

## 8551501VA
designator U?
Regulating Pulse Width Modulator with Voltage Control, 50 % Duty Cycle, -55 to +125 degC, 18-pin CDIP (J); PartNumber: 8551501VA; Manufacturer: Texas Instruments; Duty Cycle(Max)(%): 50; Eco-Plan: TBD; Frequency(Max)(kHz): 450; Rating: Military; Regulated Outputs(#): 2; SubFamily: PWM Controller; Topology: Boost, Flyback, Forward, Full-Bridge, Half-Bridge, Push-Pull; DatasheetVersion: SLUS185; PackageVersion: revF, Mar-2003; PackageReference: J18; PackageDescription: 18-Pin, Ceramic Dual In-Line Package, Row Spacing 7.62 mm, Pitch 2.54 mm; Control Method: Voltage; UVLO Thresholds On/Off(V): 7/6.8; Mounting Technology: Through Hole; ComponentLink1Description: Datasheet; ComponentLink1URL: http://www.ti.com/general/docs/lit/getliterature.tsp?genericPartNumber=UC1526&fileType=pdf
footprint J18 (DIP, 18-Leads, Row Spacing 7.62mm, Pitch 2.54mm, Body 24.1x6.7mm)
pins: 1 +ERROR (in), 2 -ERROR (in), 3 COMP (out), 4 CSS (in), 5 ~{RESET} (io), 6 - CURRENT SENSE (in), 7 + CURRENT SENSE (in), 8 ~{SHUTDOWN} (io), 9 RTIMING, 10 CT, 11 RD, 12 ~{SYNC} (io), 13 OUTPUT A (out), 14 VC (power), 15 GROUND (power), 16 OUTPUT B (out), 17 +VIN (power), 18 VREF (out)

## 8551502VA
designator U?
Regulating Pulse Width Modulator with Voltage Control, 50 % Duty Cycle, -55 to +125 degC, 18-pin CDIP (J); PartNumber: 8551502VA; Manufacturer: Texas Instruments; Duty Cycle(Max)(%): 50; Eco-Plan: TBD; Frequency(Max)(kHz): 450; Rating: Military; Regulated Outputs(#): 2; SubFamily: PWM Controller; Topology: Boost, Flyback, Forward, Full-Bridge, Half-Bridge, Push-Pull; DatasheetVersion: SLUS187; PackageVersion: revF, Mar-2003; PackageReference: J18; PackageDescription: 18-Pin, Ceramic Dual In-Line Package, Row Spacing 7.62 mm, Pitch 2.54 mm; Control Method: Voltage; UVLO Thresholds On/Off(V): 7/6.8; Mounting Technology: Through Hole; ComponentLink1Description: Datasheet; ComponentLink1URL: http://www.ti.com/general/docs/lit/getliterature.tsp?genericPartNumber=UC1526A&fileType=pdf
footprint J18 (DIP, 18-Leads, Row Spacing 7.62mm, Pitch 2.54mm, Body 24.1x6.7mm)
pins: 1 +ERROR (in), 2 -ERROR (in), 3 COMP (out), 4 CSS (in), 5 ~{RESET} (io), 6 - CURRENT SENSE (in), 7 + CURRENT SENSE (in), 8 ~{SHUTDOWN} (io), 9 RTIMING, 10 CT, 11 RD, 12 ~{SYNC} (io), 13 OUTPUT A (out), 14 VC (power), 15 GROUND (power), 16 OUTPUT B (out), 17 +VIN (power), 18 VREF (out)

## 85515012A
designator U?
Regulating Pulse Width Modulator with Voltage Control, 50 % Duty Cycle, -55 to +125 degC, 20-pin LCCC (FK); PartNumber: 85515012A; Manufacturer: Texas Instruments; Duty Cycle(Max)(%): 50; Eco-Plan: TBD; Frequency(Max)(kHz): 450; Rating: Military; Regulated Outputs(#): 2; SubFamily: PWM Controller; Topology: Boost, Flyback, Forward, Full-Bridge, Half-Bridge, Push-Pull; DatasheetVersion: SLUS185; PackageVersion: revD, Jan-2011; PackageReference: FK20; PackageDescription: 20-Pin Leadless Ceramic Chip Carrier, 1.27 mm Pitch; Control Method: Voltage; UVLO Thresholds On/Off(V): 7/6.8; Mounting Technology: Surface Mount; Code_JEDEC: MS-004; ComponentLink1Description: Datasheet; ComponentLink1URL: http://www.ti.com/general/docs/lit/getliterature.tsp?genericPartNumber=UC1526&fileType=pdf
footprint FK20_N (Leadless Chip Carrier, 20-Leads, Body 8.9x8.9mm, Pitch 1.27mm, IPC Medium Density)
footprint FK20_L (Leadless Chip Carrier, 20-Leads, Body 8.9x8.9mm, Pitch 1.27mm, IPC High Density)
footprint FK20_M (Leadless Chip Carrier, 20-Leads, Body 8.9x8.9mm, Pitch 1.27mm, IPC Low Density)
pins: 1 NC, 2 +ERROR (in), 3 -ERROR (in), 4 COMP (out), 5 CSS (in), 6 ~{RESET} (io), 7 - CURRENT SENSE (in), 8 +CURRENT SENSE (in), 9 ~{SHUTDOWN} (io), 10 RTIMING, 11 CT, 12 RD, 13 SYNC (io), 14 OUTPUT A (out), 15 VC (power), 16 NC, 17 GROUND (power), 18 OUTPUT B (out), 19 +VIN (power), 20 VREF (out)

## 85515022A
designator U?
Regulating Pulse Width Modulator with Voltage Control, 50 % Duty Cycle, -55 to +125 degC, 20-pin LCCC (FK); PartNumber: 85515022A; Manufacturer: Texas Instruments; Duty Cycle(Max)(%): 50; Eco-Plan: TBD; Frequency(Max)(kHz): 450; Rating: Military; Regulated Outputs(#): 2; SubFamily: PWM Controller; Topology: Boost, Flyback, Forward, Full-Bridge, Half-Bridge, Push-Pull; DatasheetVersion: SLUS187; PackageVersion: revD, Jan-2011; PackageReference: FK20; PackageDescription: 20-Pin Leadless Ceramic Chip Carrier, 1.27 mm Pitch; Control Method: Voltage; UVLO Thresholds On/Off(V): 7/6.8; Mounting Technology: Surface Mount; Code_JEDEC: MS-004; ComponentLink1Description: Datasheet; ComponentLink1URL: http://www.ti.com/general/docs/lit/getliterature.tsp?genericPartNumber=UC1526A&fileType=pdf
footprint FK20_N (Leadless Chip Carrier, 20-Leads, Body 8.9x8.9mm, Pitch 1.27mm, IPC Medium Density)
footprint FK20_L (Leadless Chip Carrier, 20-Leads, Body 8.9x8.9mm, Pitch 1.27mm, IPC High Density)
footprint FK20_M (Leadless Chip Carrier, 20-Leads, Body 8.9x8.9mm, Pitch 1.27mm, IPC Low Density)
pins: 1 NC, 2 +ERROR (in), 3 -ERROR (in), 4 COMP (out), 5 CSS (in), 6 ~{RESET} (io), 7 - CURRENT SENSE (in), 8 + CURRENT SENSE (in), 9 ~{SHUTDOWN} (io), 10 RTIMING, 11 CT, 12 RD, 13 ~{SYNC} (io), 14 OUTPUT A (out), 15 VC (power), 16 NC, 17 GROUND (power), 18 OUTPUT B (out), 19 +VIN (power), 20 VREF (out)

## SG2524D
designator U?
Regulating Pulse-Width Modulator with Voltage Control, 45 % Duty Cycle, -25 to +85 degC, 16-pin SOIC (D), Green (RoHS & no Sb/Br); PartNumber: SG2524D; Manufacturer: Texas Instruments; Duty Cycle(Max)(%): 45; Frequency(Max)(kHz): 722; Rating: Catalog; Regulated Outputs(#): 2; SubFamily: PWM Controller; Topology: Boost, Buck, Flyback, Forward, Full-Bridge, Half-Bridge, Push-Pull; DatasheetVersion: SLVS077D; PackageVersion: revM, Jun-2011; PackageReference: D16; PackageDescription: 16-Pin Plastic Small Outline Integrated Circuit, 9.9 x 3.9 mm, Pitch 1.27 mm Pitch; Supplier 1: Digi-Key; Supplier Part Number 1: 296-26328-5-ND; Supplier 2: Farnell; Supplier Part Number 2: 9589961; Supplier 3: Newark; Supplier Part Number 3: 97K9738; Supplier 4: Newark; Supplier Part Number 4: 75C7651; Supplier 5: Mouser; Supplier Part Number 5: 595-SG2524D; Control Method: Voltage; Eco-Plan: Green (RoHS & no Sb/Br); Mounting Technology: Surface Mount; Code_JEDEC: MS-012AC; ComponentLink1Description: Datasheet; ComponentLink1URL: http://www.ti.com/general/docs/lit/getliterature.tsp?genericPartNumber=SG2524&fileType=pdf
footprint D16_N (SOIC, 16-Leads, Body 9.9x3.9mm, Pitch 1.27mm, IPC Medium Density)
footprint D16_L (SOIC, 16-Leads, Body 9.9x3.9mm, Pitch 1.27mm, IPC High Density)
footprint D16_M (SOIC, 16-Leads, Body 9.9x3.9mm, Pitch 1.27mm, IPC Low Density)
pins: 1 IN- (in), 2 IN+ (in), 3 OSC OUT, 4 CURR LIM+ (in), 5 CURR LIM- (in), 6 RT, 7 CT, 8 GND (power), 9 COMP (out), 10 SHUTDOWN (in), 11 EMIT 1, 12 COL 1, 13 COL 2, 14 EMIT 2, 15 VCC (power), 16 REF OUT (out)

## SG2524DE4
designator U?
Regulating Pulse-Width Modulator with Voltage Control, 45 % Duty Cycle, -25 to +85 degC, 16-pin SOIC (D), Green (RoHS & no Sb/Br); PartNumber: SG2524DE4; Manufacturer: Texas Instruments; Duty Cycle(Max)(%): 45; Frequency(Max)(kHz): 722; Rating: Catalog; Regulated Outputs(#): 2; SubFamily: PWM Controller; Topology: Boost, Buck, Flyback, Forward, Full-Bridge, Half-Bridge, Push-Pull; DatasheetVersion: SLVS077D; PackageVersion: revM, Jun-2011; PackageReference: D16; PackageDescription: 16-Pin Plastic Small Outline Integrated Circuit, 9.9 x 3.9 mm, Pitch 1.27 mm Pitch; Supplier 1: Digi-Key; Supplier Part Number 1: SG2524DE4-ND; Supplier 2: Newark; Supplier Part Number 2: 37K0797; Supplier 3: Mouser; Supplier Part Number 3: 595-SG2524DE4; Control Method: Voltage; Eco-Plan: Green (RoHS & no Sb/Br); Mounting Technology: Surface Mount; Code_JEDEC: MS-012AC; ComponentLink1Description: Datasheet; ComponentLink1URL: http://www.ti.com/general/docs/lit/getliterature.tsp?genericPartNumber=SG2524&fileType=pdf
footprint D16_N (SOIC, 16-Leads, Body 9.9x3.9mm, Pitch 1.27mm, IPC Medium Density)
footprint D16_L (SOIC, 16-Leads, Body 9.9x3.9mm, Pitch 1.27mm, IPC High Density)
footprint D16_M (SOIC, 16-Leads, Body 9.9x3.9mm, Pitch 1.27mm, IPC Low Density)
pins: 1 IN- (in), 2 IN+ (in), 3 OSC OUT, 4 CURR LIM+ (in), 5 CURR LIM- (in), 6 RT, 7 CT, 8 GND (power), 9 COMP (out), 10 SHUTDOWN (in), 11 EMIT 1, 12 COL 1, 13 COL 2, 14 EMIT 2, 15 VCC (power), 16 REF OUT (out)

## SG2524DG4
designator U?
Regulating Pulse-Width Modulator with Voltage Control, 45 % Duty Cycle, -25 to +85 degC, 16-pin SOIC (D), Green (RoHS & no Sb/Br); PartNumber: SG2524DG4; Manufacturer: Texas Instruments; Duty Cycle(Max)(%): 45; Frequency(Max)(kHz): 722; Rating: Catalog; Regulated Outputs(#): 2; SubFamily: PWM Controller; Topology: Boost, Buck, Flyback, Forward, Full-Bridge, Half-Bridge, Push-Pull; DatasheetVersion: SLVS077D; PackageVersion: revM, Jun-2011; PackageReference: D16; PackageDescription: 16-Pin Plastic Small Outline Integrated Circuit, 9.9 x 3.9 mm, Pitch 1.27 mm Pitch; Supplier 1: Digi-Key; Supplier Part Number 1: SG2524DG4-ND; Supplier 2: Newark; Supplier Part Number 2: 41M4258; Supplier 3: Mouser; Supplier Part Number 3: 595-SG2524DG4; Control Method: Voltage; Eco-Plan: Green (RoHS & no Sb/Br); Mounting Technology: Surface Mount; Code_JEDEC: MS-012AC; ComponentLink1Description: Datasheet; ComponentLink1URL: http://www.ti.com/general/docs/lit/getliterature.tsp?genericPartNumber=SG2524&fileType=pdf
footprint D16_N (SOIC, 16-Leads, Body 9.9x3.9mm, Pitch 1.27mm, IPC Medium Density)
footprint D16_L (SOIC, 16-Leads, Body 9.9x3.9mm, Pitch 1.27mm, IPC High Density)
footprint D16_M (SOIC, 16-Leads, Body 9.9x3.9mm, Pitch 1.27mm, IPC Low Density)
pins: 1 IN- (in), 2 IN+ (in), 3 OSC OUT, 4 CURR LIM+ (in), 5 CURR LIM- (in), 6 RT, 7 CT, 8 GND (power), 9 COMP (out), 10 SHUTDOWN (in), 11 EMIT 1, 12 COL 1, 13 COL 2, 14 EMIT 2, 15 VCC (power), 16 REF OUT (out)

## SG2524DR
designator U?
Regulating Pulse-Width Modulator with Voltage Control, 45 % Duty Cycle, -25 to +85 degC, 16-pin SOIC (D), Green (RoHS & no Sb/Br); PartNumber: SG2524DR; Manufacturer: Texas Instruments; Duty Cycle(Max)(%): 45; Frequency(Max)(kHz): 722; Rating: Catalog; Regulated Outputs(#): 2; SubFamily: PWM Controller; Topology: Boost, Buck, Flyback, Forward, Full-Bridge, Half-Bridge, Push-Pull; DatasheetVersion: SLVS077D; PackageVersion: revM, Jun-2011; PackageReference: D16; PackageDescription: 16-Pin Plastic Small Outline Integrated Circuit, 9.9 x 3.9 mm, Pitch 1.27 mm Pitch; Supplier 1: Digi-Key; Supplier Part Number 1: 296-12552-2-ND; Supplier 2: Digi-Key; Supplier Part Number 2: 296-12552-1-ND; Supplier 3: Digi-Key; Supplier Part Number 3: 296-12552-6-ND; Supplier 4: Newark; Supplier Part Number 4: 75C7652; Supplier 5: Mouser; Supplier Part Number 5: 595-SG2524DR; Control Method: Voltage; Eco-Plan: Green (RoHS & no Sb/Br); Mounting Technology: Surface Mount; Code_JEDEC: MS-012AC; ComponentLink1Description: Datasheet; ComponentLink1URL: http://www.ti.com/general/docs/lit/getliterature.tsp?genericPartNumber=SG2524&fileType=pdf
footprint D16_N (SOIC, 16-Leads, Body 9.9x3.9mm, Pitch 1.27mm, IPC Medium Density)
footprint D16_L (SOIC, 16-Leads, Body 9.9x3.9mm, Pitch 1.27mm, IPC High Density)
footprint D16_M (SOIC, 16-Leads, Body 9.9x3.9mm, Pitch 1.27mm, IPC Low Density)
pins: 1 IN- (in), 2 IN+ (in), 3 OSC OUT, 4 CURR LIM+ (in), 5 CURR LIM- (in), 6 RT, 7 CT, 8 GND (power), 9 COMP (out), 10 SHUTDOWN (in), 11 EMIT 1, 12 COL 1, 13 COL 2, 14 EMIT 2, 15 VCC (power), 16 REF OUT (out)

## SG2524DRE4
designator U?
Regulating Pulse-Width Modulator with Voltage Control, 45 % Duty Cycle, -25 to +85 degC, 16-pin SOIC (D), Green (RoHS & no Sb/Br); PartNumber: SG2524DRE4; Manufacturer: Texas Instruments; Duty Cycle(Max)(%): 45; Frequency(Max)(kHz): 722; Rating: Catalog; Regulated Outputs(#): 2; SubFamily: PWM Controller; Topology: Boost, Buck, Flyback, Forward, Full-Bridge, Half-Bridge, Push-Pull; DatasheetVersion: SLVS077D; PackageVersion: revM, Jun-2011; PackageReference: D16; PackageDescription: 16-Pin Plastic Small Outline Integrated Circuit, 9.9 x 3.9 mm, Pitch 1.27 mm Pitch; Supplier 1: Digi-Key; Supplier Part Number 1: SG2524DRE4-ND; Supplier 2: Newark; Supplier Part Number 2: 37K0798; Supplier 3: Mouser; Supplier Part Number 3: 595-SG2524DRE4; Control Method: Voltage; Eco-Plan: Green (RoHS & no Sb/Br); Mounting Technology: Surface Mount; Code_JEDEC: MS-012AC; ComponentLink1Description: Datasheet; ComponentLink1URL: http://www.ti.com/general/docs/lit/getliterature.tsp?genericPartNumber=SG2524&fileType=pdf
footprint D16_N (SOIC, 16-Leads, Body 9.9x3.9mm, Pitch 1.27mm, IPC Medium Density)
footprint D16_L (SOIC, 16-Leads, Body 9.9x3.9mm, Pitch 1.27mm, IPC High Density)
footprint D16_M (SOIC, 16-Leads, Body 9.9x3.9mm, Pitch 1.27mm, IPC Low Density)
pins: 1 IN- (in), 2 IN+ (in), 3 OSC OUT, 4 CURR LIM+ (in), 5 CURR LIM- (in), 6 RT, 7 CT, 8 GND (power), 9 COMP (out), 10 SHUTDOWN (in), 11 EMIT 1, 12 COL 1, 13 COL 2, 14 EMIT 2, 15 VCC (power), 16 REF OUT (out)

## SG2524DRG4
designator U?
Regulating Pulse-Width Modulator with Voltage Control, 45 % Duty Cycle, -25 to +85 degC, 16-pin SOIC (D), Green (RoHS & no Sb/Br); PartNumber: SG2524DRG4; Manufacturer: Texas Instruments; Duty Cycle(Max)(%): 45; Frequency(Max)(kHz): 722; Rating: Catalog; Regulated Outputs(#): 2; SubFamily: PWM Controller; Topology: Boost, Buck, Flyback, Forward, Full-Bridge, Half-Bridge, Push-Pull; DatasheetVersion: SLVS077D; PackageVersion: revM, Jun-2011; PackageReference: D16; PackageDescription: 16-Pin Plastic Small Outline Integrated Circuit, 9.9 x 3.9 mm, Pitch 1.27 mm Pitch; Supplier 1: Digi-Key; Supplier Part Number 1: SG2524DRG4-ND; Supplier 2: Newark; Supplier Part Number 2: 41M4259; Supplier 3: Mouser; Supplier Part Number 3: 595-SG2524DRG4; Control Method: Voltage; Eco-Plan: Green (RoHS & no Sb/Br); Mounting Technology: Surface Mount; Code_JEDEC: MS-012AC; ComponentLink1Description: Datasheet; ComponentLink1URL: http://www.ti.com/general/docs/lit/getliterature.tsp?genericPartNumber=SG2524&fileType=pdf
footprint D16_N (SOIC, 16-Leads, Body 9.9x3.9mm, Pitch 1.27mm, IPC Medium Density)
footprint D16_L (SOIC, 16-Leads, Body 9.9x3.9mm, Pitch 1.27mm, IPC High Density)
footprint D16_M (SOIC, 16-Leads, Body 9.9x3.9mm, Pitch 1.27mm, IPC Low Density)
pins: 1 IN- (in), 2 IN+ (in), 3 OSC OUT, 4 CURR LIM+ (in), 5 CURR LIM- (in), 6 RT, 7 CT, 8 GND (power), 9 COMP (out), 10 SHUTDOWN (in), 11 EMIT 1, 12 COL 1, 13 COL 2, 14 EMIT 2, 15 VCC (power), 16 REF OUT (out)